# Altium footprint library MaleHeaderSMD_50mil.PcbLib: 2 footprints
Each footprint in its own frame and in the unit in brackets; x right, y up, seen from the top. Pads: shape width x height; smd on the part's side, far side on the other; paste and mask are expansions set on the pad; w line width, h text height; cw(c..) or ccw(c..) is an arc to the next point about the centre after c.
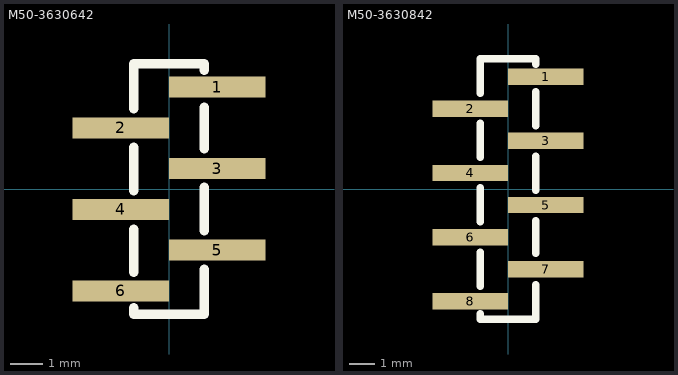
[diagram p0: the footprints below, top view; thin cyan lines are the x and y axes]

## M50-3630642 [mm]
pads (6):
  rect 3x0.65 smd: 1(1.5,3.175) 2(-1.5,1.905) 3(1.5,0.635) 4(-1.5,-0.635) 5(1.5,-1.905) 6(-1.5,-3.175)
Top Overlay:
  lines w0.3: -1.1,-3.7 -1.1,-3.9 1.1,-3.9 1.1,-2.5 ; -1.1,-2.6 -1.1,-1.25 ; -1.1,-0.05 -1.1,1.3 ; -1.1,2.5 -1.1,3.9 1.1,3.9 1.1,3.7 ; 1.1,-1.3 1.1,0.05 ; 1.1,1.25 1.1,2.55
3D body "M50-3630642.STEP": height 4.51, standoff 0.01, extent -2.5,-3.809 2.5,3.813

## M50-3630842 [mm]
pads (8):
  rect 3x0.65 smd: 1(1.5,4.445) 2(-1.5,3.175) 3(1.5,1.905) 4(-1.5,0.635) 5(1.5,-0.635) 6(-1.5,-1.905) 7(1.5,-3.175) 8(-1.5,-4.445)
Top Overlay:
  lines w0.3: -1.1,-4.95 -1.1,-5.17 1.1,-5.17 1.1,-3.8 ; -1.1,-3.85 -1.1,-2.5 ; -1.1,-1.3 -1.1,0.05 ; -1.1,1.25 -1.1,2.6 ; -1.1,3.8 -1.1,5.17 1.1,5.17 1.1,4.95 ; 1.1,-2.55 1.1,-1.25 ; 1.1,-0.05 1.1,1.3 ; 1.1,2.5 1.1,3.85
3D body "M50-3630842.STEP": height 4.51, standoff 0.01, extent -2.5,-5.089 2.5,5.073